# EAGLE library part PCM4202 (library cdp)
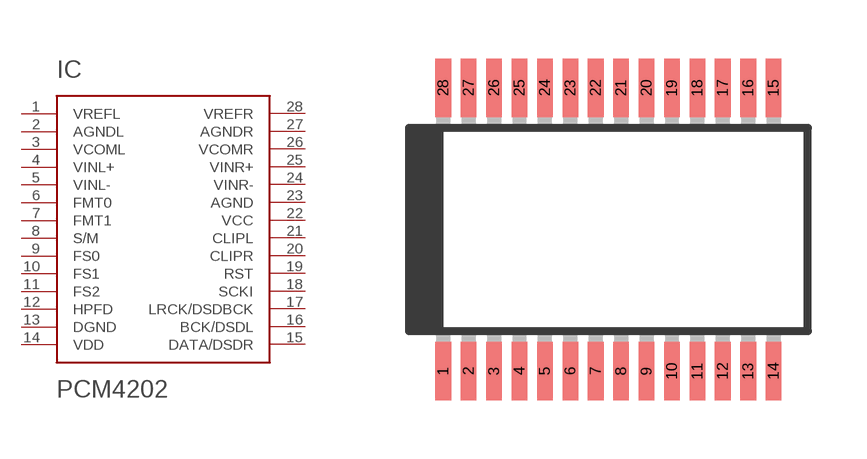
[diagram p4: symbol with the pads of SSOP28; footprint SSOP28]

Designator prefix IC

## PCM4202  [SSOP28]
1  VREFL
2  AGNDL  pwr
3  VCOML
4  VINL+  in
5  VINL-  in
6  FMT0  in
7  FMT1  in
8  S/M  in
9  FS0  in
10  FS1  in
11  FS2  in
12  HPFD  in
13  DGND  pwr
14  VDD  pwr
15  DATA/DSDR  out
16  BCK/DSDL  out
17  LRCK/DSDBCK  out
18  SCKI  in
19  RST  in
20  CLIPR  out
21  CLIPL  out
22  VCC  pwr
23  AGND  pwr
24  VINR-  in
25  VINR+  in
26  VCOMR
27  AGNDR  pwr
28  VREFR

## Footprint SSOP28 (pad centres in mm)
Shrink Small Outline Package package type SS
smd 0.4 x 1.5: 1 -4.225,-3.625; 2 -3.575,-3.625; 3 -2.925,-3.625; 4 -2.275,-3.625; 5 -1.625,-3.625; 6 -0.975,-3.625; 7 -0.325,-3.625; 8 0.325,-3.625; 9 0.975,-3.625; 10 1.625,-3.625; 11 2.275,-3.625; 12 2.925,-3.625; 13 3.575,-3.625; 14 4.225,-3.625; 15 4.225,3.625; 16 3.575,3.625; 17 2.925,3.625; 18 2.275,3.625; 19 1.625,3.625; 20 0.975,3.625; 21 0.325,3.625; 22 -0.325,3.625; 23 -0.975,3.625; 24 -1.625,3.625; 25 -2.275,3.625; 26 -2.925,3.625; 27 -3.575,3.625; 28 -4.225,3.625